# Altium footprint library IM66D130MV01modified.PcbLib: 1 footprints
Each footprint in its own frame and in the unit in brackets; x right, y up, seen from the top. Pads: shape width x height; smd on the part's side, far side on the other; paste and mask are expansions set on the pad; w line width, h text height; cw(c..) or ccw(c..) is an arc to the next point about the centre after c.
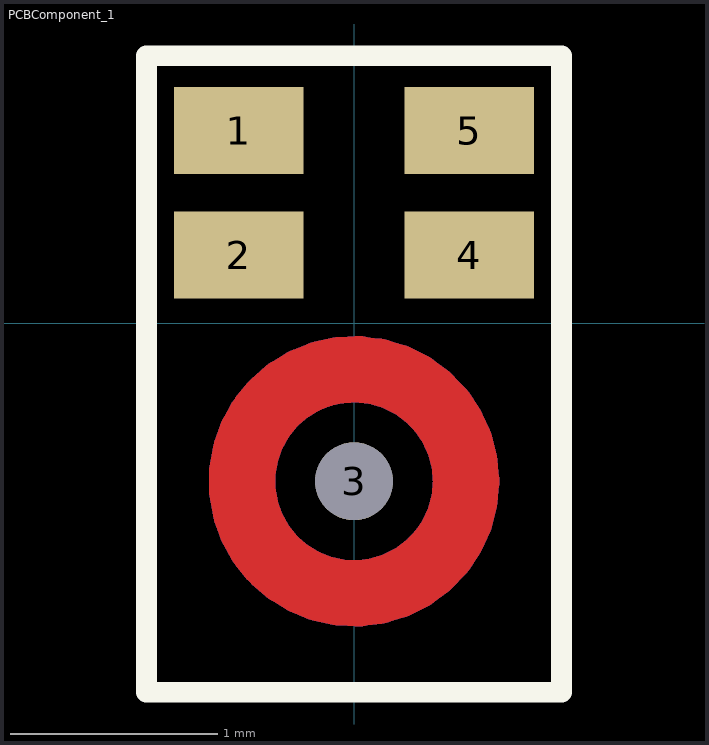
[diagram p0: the footprint, top view; thin cyan lines are the x and y axes]

## PCBComponent_1 [mm]
pads (5):
  rect 0.625x0.42 smd mask+0.05: 1(-0.555,0.928) 2(-0.555,0.328) 4(0.555,0.328) 5(0.555,0.928)
  round 0.375 hole 0.375: 3(0,-0.762)
Top Layer:
  circle w0.32: c0,-0.762 r0.54
Bottom Layer:
  circle w0.32: c0,-0.762 r0.54
Top Overlay:
  lines w0.1: -1,-1.778 -1,1.288 1,1.288 1,-1.778 -1,-1.778